# Altium integrated library 2450FB15L0001E.IntLib: 1 symbol
Pins are listed as number, name and electrical type; pins without a type are passive.

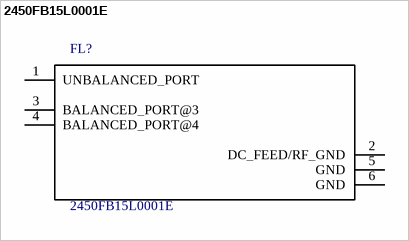
[diagram p0: symbol 2450FB15L0001E]

## 2450FB15L0001E
designator FL?
/ BALUN FILTER, 2.45GHZ; Insertion Loss: 1.5dB; Balun Case Style: 0805 /; MF: Johanson; SnapEDA_Link: https://www.snapeda.com/parts/2450FB15L0001E/Johanson/view-part/?ref=snap; Digi-Key_Purchase_URL: https://www.digikey.com/product-detail/en/johanson-technology-inc/2450FB15L0001E/712-1538-1-ND/2392174?utm_source=snapeda&utm_medium=aggregator&utm_campaign=symbol; MP: 2450FB15L0001E; Digi-Key_Part_Number: 712-1538-1-ND; Package: 0805 Johanson; Value: *
footprint *FILTER_2450FB15L0001E
pins: 1 UNBALANCED_PORT, 2 DC_FEED/RF_GND (power), 3 BALANCED_PORT@3, 4 BALANCED_PORT@4, 5 GND (power), 6 GND (power)